# Altium footprint library PcbLib1.PcbLib: 18 footprints (part 2 of 2)
Each footprint in its own frame and in the unit in brackets; x right, y up, seen from the top. Pads: shape width x height; smd on the part's side, far side on the other; paste and mask are expansions set on the pad; w line width, h text height; cw(c..) or ccw(c..) is an arc to the next point about the centre after c.
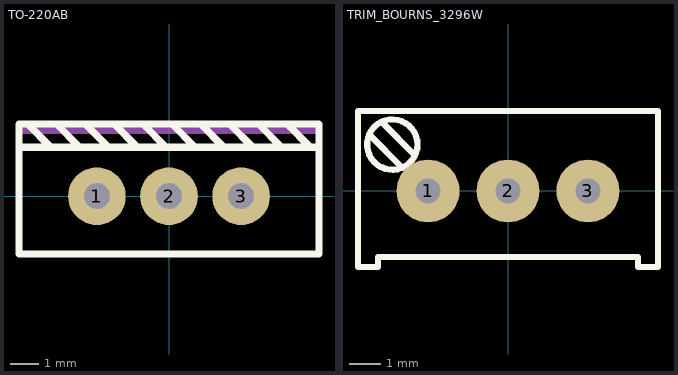
[diagram p1: the footprints below, top view; thin cyan lines are the x and y axes]

## TO-220AB [mm] "КТ-28-2"
height 15
pads (3):
  round 2 hole 0.9: 1(-2.5,0) 2(0,0) 3(2.5,0)
Top Overlay:
  lines w0.25: -5.2,1.7 5.2,1.7 ; -4.9,2.5 -4.1,1.7 ; -3.9,2.5 -3.1,1.7 ; -2.9,2.5 -2.1,1.7 ; -1.9,2.5 -1.1,1.7 ; -0.9,2.5 -0.1,1.7 ; 0.1,2.5 0.9,1.7 ; 1.1,2.5 1.9,1.7 ; 2.1,2.5 2.9,1.7 ; 3.1,2.5 3.9,1.7 ; 4.1,2.5 4.9,1.7 ; -5.2,-2 5.2,-2 5.2,2.5 -5.2,2.5 -5.2,-2
Mechanical 13:
  lines w0.1: -5.2,2.2 5.2,2.2 ; -5.2,2.3 5.2,2.3 ; -5.2,2.4 5.2,2.4 ; -5.2,-2 -5.2,2.5 5.2,2.5 5.2,-2 -5.2,-2
3D body "User Library-TO-220-4.STEP": height 26.06, standoff -2.74, extent -5.1,-1.9 5.1,2.6

## TRIM_BOURNS_3296W [mm] "Trimming Potentiometer BOURNS 3296W Series"
height 11.55
pads (3):
  round 2 hole 0.8: 1(-2.54,0) 2(0,0) 3(2.54,0)
Top Overlay:
  circle w0.2: c-3.675,1.475 r0.8
  lines w0.2: -4.397,1.778 -3.372,0.753 ; -4,2.175 -2.975,1.15 ; -4.763,-2.413 -4.127,-2.413 -4.127,-2.095 4.127,-2.095 4.127,-2.413 4.763,-2.413 4.763,2.54 -4.763,2.54 -4.763,-2.413
Mechanical 14:
  circle w0.1: c-3.675,1.475 r0.8
  lines w0.1: -4.765,2.54 4.765,2.54 ; -4.763,2.54 -4.763,-2.413 -4.129,-2.413 ; -4.322,1.703 -3.372,0.753 ; -4.127,-2.413 -4.127,-2.095 4.127,-2.095 4.127,-2.413 4.763,-2.413 ; -4,2.175 -2.95,1.125 ; 4.763,-2.095 4.763,-2.412 ; 4.763,2.54 4.763,-2.413
3D body "TRIM_BOURNS_3296Y.stp": height 11.55, standoff -3.42, extent -4.765,-2.41 4.765,2.55